# Altium footprint library TO.PcbLib: 11 footprints
Each footprint in its own frame and in the unit in brackets; x right, y up, seen from the top. Pads: shape width x height; smd on the part's side, far side on the other; paste and mask are expansions set on the pad; w line width, h text height; cw(c..) or ccw(c..) is an arc to the next point about the centre after c.
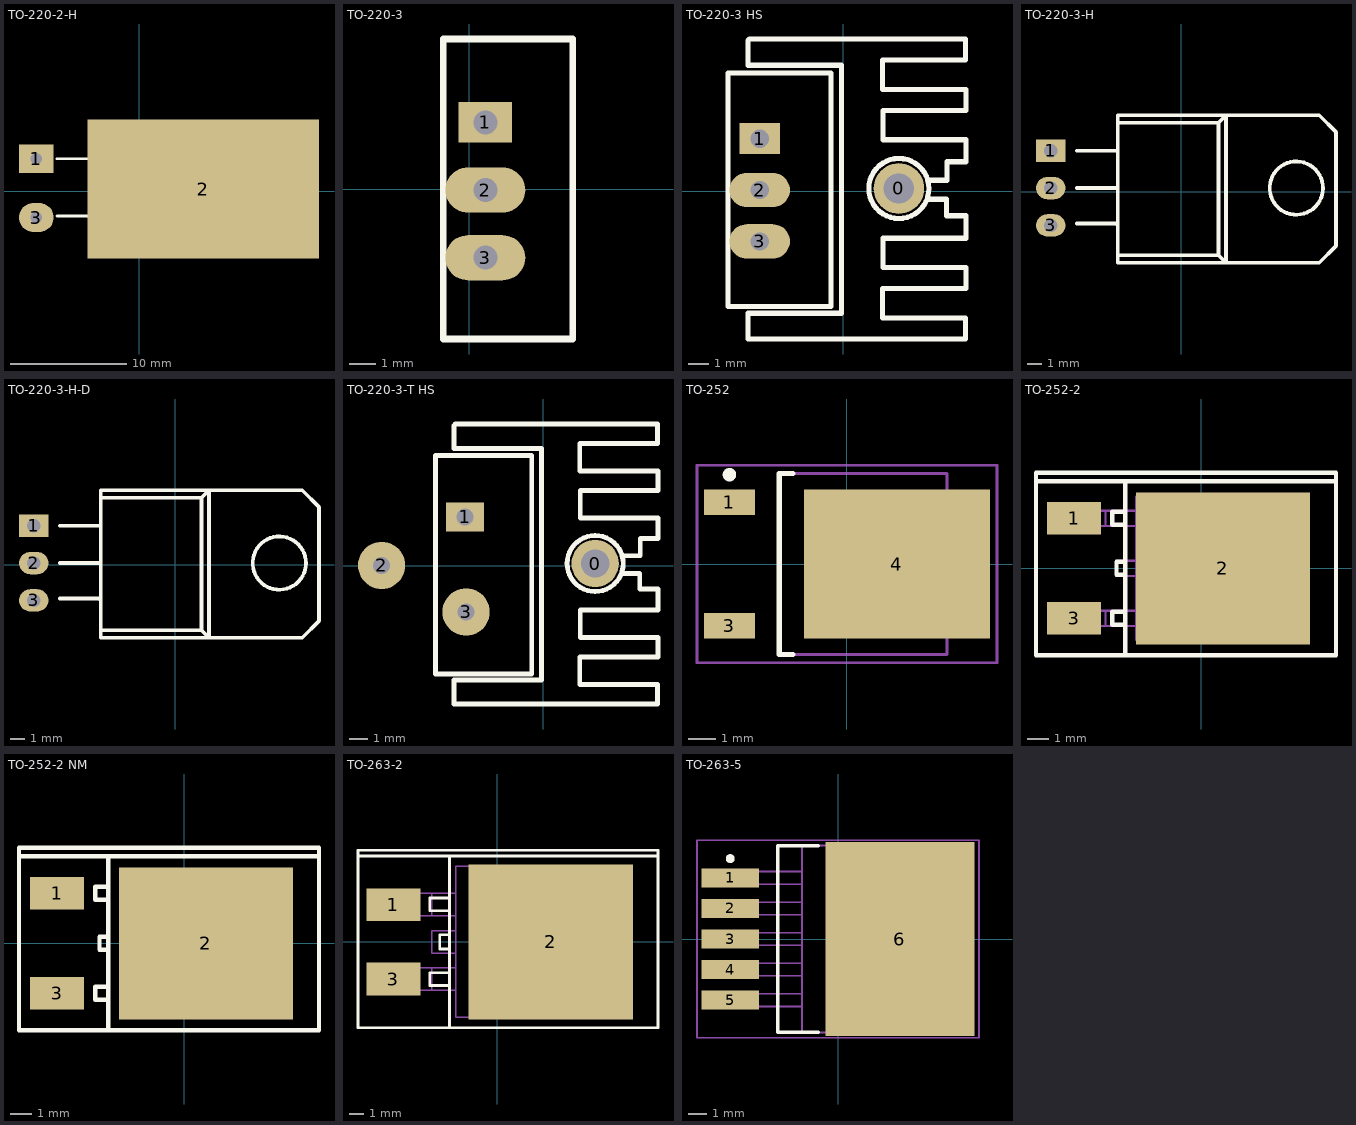
[diagram p0: the footprints below, top view; thin cyan lines are the x and y axes]

## TO-220-2-H [mm]
height 3.5
pads (3):
  rect 3x2.5 hole 1: 1(-8.89,2.794)
  rect 20x12 smd: 2(5.537,0.178)
  oval 3x2.5 hole 1: 3(-8.89,-2.286)
Top Overlay:
  circle w0.254: c7.838,0.254 r1.814
  lines w0.254: -7.112,-2.159 -4.445,-2.159 -4.318,-2.286 ; -7.112,2.794 -4.318,2.794 ; -4.318,-4.318 2.54,-4.318 ; -4.318,4.699 2.54,4.699 ; 3.048,-4.826 2.54,-4.318 ; 3.048,-4.699 3.048,5.08 ; 3.048,5.207 2.54,4.699 ; 2.54,-4.318 2.54,4.699 ; -4.318,-4.826 -4.318,5.207 9.398,5.207 10.541,4.064 10.541,-3.683 9.398,-4.826 -4.318,-4.826
3D body "TO220 L.stp": height 4.5, standoff -3, extent -9.05,-4.55 10.654,5.45

## TO-220-3 [mm] "with heat sink"
height 25
pads (3):
  rect 2x1.524 hole 0.9: 1(0.61,2.515)
  oval 3x1.7 hole 0.9: 2(0.61,-0.025) 3(0.61,-2.565)
Top Overlay:
  lines w0.254: -0.965,-5.613 3.886,-5.613 3.886,5.639 -0.965,5.639 -0.965,-5.613
3D body "User Library-TO220AB.step": height 20.83, standoff -8.5, extent -0.829,-5.6 3.861,5.613

## TO-220-3 HS [mm] "with heat sink"
height 25
pads (4):
  round 2.5 hole 1.5: 0(2.743,0.127)
  rect 2x1.524 hole 0.9: 1(-4.14,2.591)
  oval 3x1.7 hole 0.9: 2(-4.14,0.051) 3(-4.14,-2.489)
Top Overlay:
  circle w0.254: c2.743,0.127 r1.485
  lines w0.254: 4.166,-0.432 4.191,-0.406 5.105,-0.406 5.105,-1.194 ; 4.216,0.559 4.242,0.533 5.131,0.533 5.131,1.448 6.071,1.448 6.071,2.54 1.956,2.54 1.956,3.988 6.071,3.988 6.071,5.029 1.93,5.029 1.93,6.477 6.045,6.477 6.045,7.518 -4.648,7.518 -4.724,7.442 -4.724,6.223 -0.102,6.223 -0.102,-6.045 -4.724,-6.045 -4.724,-7.315 6.045,-7.315 6.045,-6.274 1.93,-6.274 1.93,-4.826 6.071,-4.826 6.071,-3.785 1.956,-3.785 1.956,-2.337 6.071,-2.337 6.071,-1.219 5.105,-1.219 ; -5.715,-5.715 -5.715,5.842 -0.61,5.842 -0.61,-5.715 -5.715,-5.715
3D body "User Library-TO220AB.step": height 20.83, standoff -8.5, extent -5.503,-5.549 -0.813,5.664
3D body "User Library-heatsink TO126.step": height 25.2, standoff -3.6, extent -4.739,-7.264 6.062,7.518

## TO-220-3-H [mm]
height 3.5
pads (3):
  rect 2x1.524 hole 0.9: 1(-8.89,2.794)
  oval 2x1.524 hole 0.9: 2(-8.89,0.254) 3(-8.89,-2.286)
Top Overlay:
  circle w0.254: c7.838,0.254 r1.814
  lines w0.254: -7.112,-2.159 -4.445,-2.159 -4.318,-2.286 ; -7.112,0.254 -4.318,0.254 ; -7.112,2.794 -4.318,2.794 ; -4.318,-4.318 2.54,-4.318 ; -4.318,4.699 2.54,4.699 ; 3.048,-4.826 2.54,-4.318 ; 3.048,-4.699 3.048,5.08 ; 3.048,5.207 2.54,4.699 ; 2.54,-4.318 2.54,4.699 ; -4.318,-4.826 -4.318,5.207 9.398,5.207 10.541,4.064 10.541,-3.683 9.398,-4.826 -4.318,-4.826
3D body "User Library-TO220 L.step": height 4.6, standoff -2.9, extent -9.017,-4.746 10.687,5.254

## TO-220-3-H-D [mil]
height 137.8
pads (3):
  rect 78.74x60 hole 35.43: 1(-380,105)
  oval 78.74x60 hole 35.43: 2(-380,5) 3(-380,-95)
Top Overlay:
  circle w10: c278.58,5 r71.42
  lines w10: -310,-90 -205,-90 -200,-95 ; -310,5 -200,5 ; -310,105 -200,105 ; -200,-175 70,-175 ; -200,180 70,180 ; 90,-195 70,-175 ; 90,-190 90,195 ; 90,200 70,180 ; 70,-175 70,180 ; -200,-195 -200,200 340,200 385,155 385,-150 340,-195 -200,-195
3D body "TO220 LD.step": height 181.1, standoff -141.73, extent -387.88,-193.7 387.88,200

## TO-220-3-T HS [mm] "with heat sink"
height 25
pads (4):
  round 2.5 hole 1.5: 0(2.743,0.127)
  rect 2x1.524 hole 0.9: 1(-4.14,2.591)
  round 2.5 hole 0.9: 2(-8.56,0.025) 3(-4.089,-2.438)
Top Overlay:
  circle w0.254: c2.743,0.127 r1.485
  lines w0.254: 4.166,-0.432 4.191,-0.406 5.105,-0.406 5.105,-1.194 ; 4.216,0.559 4.242,0.533 5.131,0.533 5.131,1.448 6.071,1.448 6.071,2.54 1.956,2.54 1.956,3.988 6.071,3.988 6.071,5.029 1.93,5.029 1.93,6.477 6.045,6.477 6.045,7.518 -4.648,7.518 -4.724,7.442 -4.724,6.223 -0.102,6.223 -0.102,-6.045 -4.724,-6.045 -4.724,-7.315 6.045,-7.315 6.045,-6.274 1.93,-6.274 1.93,-4.826 6.071,-4.826 6.071,-3.785 1.956,-3.785 1.956,-2.337 6.071,-2.337 6.071,-1.219 5.105,-1.219 ; -5.715,-5.715 -0.61,-5.715 -0.61,5.842 -5.715,5.842 -5.715,-5.715
3D body "User Library-to-220hs(tr-right lead bend).step": height 23.54, standoff -4.14, extent -8.754,-5.022 -0.833,5.138
3D body "User Library-heatsink TO126.step": height 25.2, standoff -3.6, extent -4.739,-7.264 6.062,7.518

## TO-252 [mm]
height 2
pads (3):
  rect 1.9x0.95 smd: 1(-4.35,2.28) 3(-4.35,-2.28)
  rect 6.9x5.5 smd: 4(1.85,0)
Top Overlay:
  circle w0.25: c-4.35,3.305 r0.125
  lines w0.2: -2,-3.35 -2.5,-3.35 -2.5,3.35 -2,3.35
Top Package:
  lines w0.1: -2.5,-3.35 -2.5,3.35 3.7,3.35 3.7,-3.35 -2.5,-3.35
Top Border:
  lines w0.1: -0.5,0 0.5,0 ; 0,-0.5 0,0.5 ; -5.55,-3.65 -5.55,3.65 5.55,3.65 5.55,-3.65 -5.55,-3.65
3D body "User Library-TO252AA.step": height 2.3, standoff -0.01, extent -4.723,-3.278 4.977,3.302

## TO-252-2 [mm]
height 2.2
pads (3):
  rect 2.5x1.5 smd: 1(-5.85,2.3) 3(-5.85,-2.3)
  rect 8x7 smd: 2(1,0)
Top Overlay:
  lines w0.2: -7.6,4 6.2,4 ; -3.5,-4 -3.5,4 ; -3.5,-2.6 -4.1,-2.6 -4.1,-2 -3.5,-2 ; -3.5,-0.3 -3.9,-0.3 -3.9,0.3 -3.5,0.3 ; -3.5,2 -4.1,2 -4.1,2.6 -3.5,2.6 ; -7.6,-4 6.2,-4 6.2,4.4 -7.6,4.4 -7.6,-4
Top Package:
  circle w0.1: c2,2.5 r0.5
  lines w0.1: -4.4,-2.65 -4.4,-1.95 ; -4.4,1.95 -4.4,2.65 ; 3,-2.6 4,-2.6 4,2.6 3,2.6 ; -5.9,-2.65 -5.9,-1.95 -3,-1.95 -3,-2.65 -5.9,-2.65 ; -5.9,1.95 -5.9,2.65 -3,2.65 -3,1.95 -5.9,1.95 ; -3.9,-0.35 -3.9,0.35 -3,0.35 -3,-0.35 -3.9,-0.35 ; -3,-3.3 -3,3.3 3,3.3 3,-3.3 -3,-3.3
Top Border:
  lines w0.1: -0.4,0 0.4,0 ; 0,-0.4 0,0.4 ; -7.6,-4 -7.6,4.4 6.2,4.4 6.2,-4 -7.6,-4
3D body "TO-252-2.step": height 2.44, standoff 0.03, extent -6.438,-3.27 3.5,3.27

## TO-252-2 NM [mm]
height 2.2
pads (3):
  rect 2.5x1.5 smd: 1(-5.85,2.3) 3(-5.85,-2.3)
  rect 8x7 smd: 2(1,0)
Top Overlay:
  lines w0.2: -7.6,4 6.2,4 ; -3.5,-4 -3.5,4 ; -3.5,-2.6 -4.1,-2.6 -4.1,-2 -3.5,-2 ; -3.5,-0.3 -3.9,-0.3 -3.9,0.3 -3.5,0.3 ; -3.5,2 -4.1,2 -4.1,2.6 -3.5,2.6 ; -7.6,-4 -7.6,4.4 6.2,4.4 6.2,-4 -7.6,-4
Top Border:
  lines w0.1: -0.4,0 0.4,0 ; 0,-0.4 0,0.4 ; -7.6,-4 6.2,-4 6.2,4.4 -7.6,4.4 -7.6,-4

## TO-263-2 [mm]
height 4.83
pads (3):
  rect 3.81x2.32 smd: 1(-7.385,2.64) 3(-7.385,-2.64)
  rect 11.65x11 smd: 2(3.785,0)
Top Overlay:
  lines w0.2: -9.9,6.1 11.4,6.1 ; -3.4,-6.1 -3.4,6.1 ; -3.4,-3.1 -4.8,-3.1 -4.8,-2.2 -3.4,-2.2 ; -3.4,-0.5 -4.1,-0.5 -4.1,0.5 -3.4,0.5 ; -3.4,2.2 -4.8,2.2 -4.8,3.1 -3.4,3.1 ; -9.9,-6.1 11.4,-6.1 11.4,6.5 -9.9,6.5 -9.9,-6.1
Top Package:
  lines w0.1: -6.55,-3.45 -6.55,-1.85 ; -6.55,1.85 -6.55,3.45 ; -4.65,-3.45 -4.65,-1.85 ; -4.65,1.85 -4.65,3.45 ; 5.65,-3.875 7.65,-3.875 7.65,3.825 5.65,3.825 ; -8.25,-3.45 -8.25,-1.85 -2.95,-1.85 -2.95,-3.45 -8.25,-3.45 ; -8.25,1.85 -8.25,3.45 -2.95,3.45 -2.95,1.85 -8.25,1.85 ; -4.65,-0.8 -4.65,0.8 -2.95,0.8 -2.95,-0.8 -4.65,-0.8 ; -2.95,-5.35 -2.95,5.35 5.65,5.35 5.65,-5.35 -2.95,-5.35
Top Border:
  lines w0.1: -0.4,0 0.4,0 ; 0,-0.4 0,0.4 ; -9.9,-6.1 -9.9,6.5 11.4,6.5 11.4,-6.1 -9.9,-6.1
3D body "User Library-D2PAK.step": height 4.83, standoff 0, extent -8.44,-5.595 7.44,5.075

## TO-263-5 [mm] "TO-263-5"
height 4.57
pads (6):
  rect 3.2x1.07 smd: 1(-6,3.4) 2(-6,1.7) 3(-6,0) 4(-6,-1.7) 5(-6,-3.4)
  rect 8.3x10.8 smd: 6(3.45,0)
Top Overlay:
  circle w0.25: c-6,4.475 r0.125
  lines w0.2: -1.1,-5.2 -3.35,-5.2 -3.35,5.2 -1.1,5.2
Top Package:
  lines w0.1: -7.35,-3.75 -2,-3.75 -2,-3.05 -7.35,-3.05 -7.35,-3.75 ; -7.35,-2.05 -2,-2.05 -2,-1.35 -7.35,-1.35 -7.35,-2.05 ; -7.35,-0.35 -2,-0.35 -2,0.35 -7.35,0.35 -7.35,-0.35 ; -7.35,1.35 -2,1.35 -2,2.05 -7.35,2.05 -7.35,1.35 ; -7.35,3.05 -7.35,3.75 -2,3.75 -2,3.05 -7.35,3.05 ; -2,-5.2 7.5,-5.2 7.5,5.2 -2,5.2 -2,-5.2
Top 3DPackage:
  lines w0.1: -0.5,0 0.5,0 ; 0,-0.5 0,0.5 ; -7.85,-5.5 7.85,-5.5 7.85,5.5 -7.85,5.5 -7.85,-5.5
3D body "PMIC SMPS LM2576HV.STEP": height 4.56, standoff 0, extent -6.675,-5.054 7.34,5.106